# EAGLE library part LC4128ZE_XXTN144 (library lattice_ispmach4000ze)
ispMACH 4128ZE TQFP144 Lattice Semiconductor Corporation - ispMACH 4000ZE Ultra Low Power, Low Cost CPLD Family Generated using Lattice BSDL models: http://www.latticesemi.com/dynamic/index.cfm?fuseaction=view_documents&document_type=36&sloc=01-01-02-01&source=sidebar
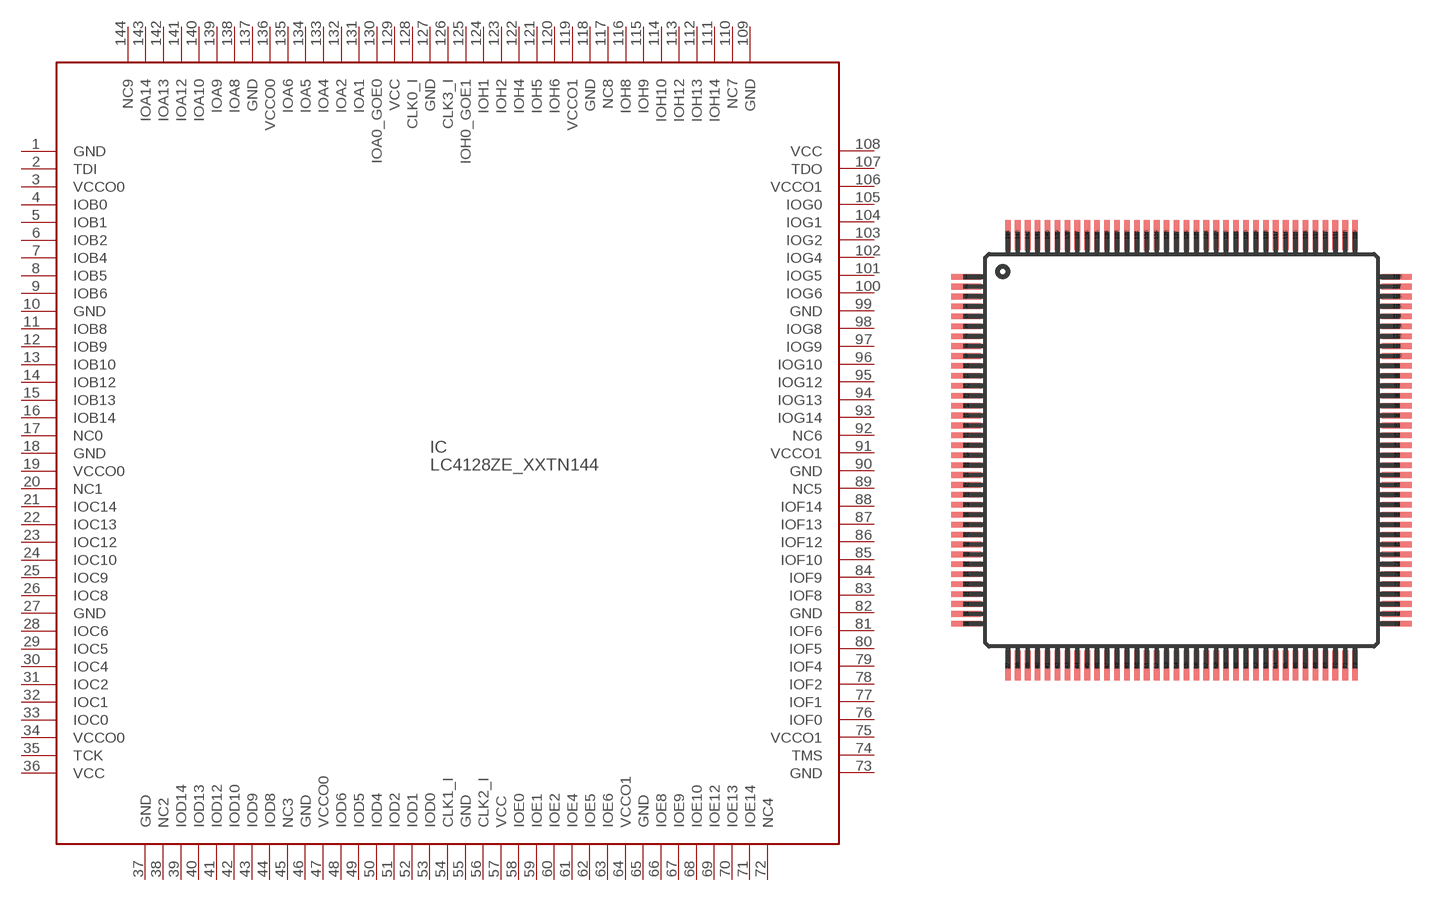
[diagram p4: symbol with the pads of TQFP144; footprint TQFP144]

Designator prefix IC

## LC4128ZE_XXTN144  [TQFP144]
1  GND  pwr
2  TDI  in
3  VCCO0  pwr
4  IOB0
5  IOB1
6  IOB2
7  IOB4
8  IOB5
9  IOB6
10  GND  pwr
11  IOB8
12  IOB9
13  IOB10
14  IOB12
15  IOB13
16  IOB14
17  NC0  pas
18  GND  pwr
19  VCCO0  pwr
20  NC1  pas
21  IOC14
22  IOC13
23  IOC12
24  IOC10
25  IOC9
26  IOC8
27  GND  pwr
28  IOC6
29  IOC5
30  IOC4
31  IOC2
32  IOC1
33  IOC0
34  VCCO0  pwr
35  TCK  in
36  VCC  pwr
37  GND  pwr
38  NC2  pas
39  IOD14
40  IOD13
41  IOD12
42  IOD10
43  IOD9
44  IOD8
45  NC3  pas
46  GND  pwr
47  VCCO0  pwr
48  IOD6
49  IOD5
50  IOD4
51  IOD2
52  IOD1
53  IOD0
54  CLK1_I  in
55  GND  pwr
56  CLK2_I  in
57  VCC  pwr
58  IOE0
59  IOE1
60  IOE2
61  IOE4
62  IOE5
63  IOE6
64  VCCO1  pwr
65  GND  pwr
66  IOE8
67  IOE9
68  IOE10
69  IOE12
70  IOE13
71  IOE14
72  NC4  pas
73  GND  pwr
74  TMS  in
75  VCCO1  pwr
76  IOF0
77  IOF1
78  IOF2
79  IOF4
80  IOF5
81  IOF6
82  GND  pwr
83  IOF8
84  IOF9
85  IOF10
86  IOF12
87  IOF13
88  IOF14
89  NC5  pas
90  GND  pwr
91  VCCO1  pwr
92  NC6  pas
93  IOG14
94  IOG13
95  IOG12
96  IOG10
97  IOG9
98  IOG8
99  GND  pwr
100  IOG6
101  IOG5
102  IOG4
103  IOG2
104  IOG1
105  IOG0
106  VCCO1  pwr
107  TDO  out
108  VCC  pwr
109  GND  pwr
110  NC7  pas
111  IOH14
112  IOH13
113  IOH12
114  IOH10
115  IOH9
116  IOH8
117  NC8  pas
118  GND  pwr
119  VCCO1  pwr
120  IOH6
121  IOH5
122  IOH4
123  IOH2
124  IOH1
125  IOH0_GOE1
126  CLK3_I  in
127  GND  pwr
128  CLK0_I  in
129  VCC  pwr
130  IOA0_GOE0
131  IOA1
132  IOA2
133  IOA4
134  IOA5
135  IOA6
136  VCCO0  pwr
137  GND  pwr
138  IOA8
139  IOA9
140  IOA10
141  IOA12
142  IOA13
143  IOA14
144  NC9  pas

## Footprint TQFP144 (pad centres in mm)
TQFP - 144 http://www.latticesemi.com/lit/docs/package/pkg.pdf
smd 1.5 x 0.285: 1 -10.85,8.75; 2 -10.85,8.25; 3 -10.85,7.75; 4 -10.85,7.25; 5 -10.85,6.75; 6 -10.85,6.25; 7 -10.85,5.75; 8 -10.85,5.25; 9 -10.85,4.75; 10 -10.85,4.25; 11 -10.85,3.75; 12 -10.85,3.25; 13 -10.85,2.75; 14 -10.85,2.25; 15 -10.85,1.75; 16 -10.85,1.25; 17 -10.85,0.75; 18 -10.85,0.25; 19 -10.85,-0.25; 20 -10.85,-0.75; 21 -10.85,-1.25; 22 -10.85,-1.75; 23 -10.85,-2.25; 24 -10.85,-2.75; 25 -10.85,-3.25; 26 -10.85,-3.75; 27 -10.85,-4.25; 28 -10.85,-4.75; 29 -10.85,-5.25; 30 -10.85,-5.75; 31 -10.85,-6.25; 32 -10.85,-6.75; 33 -10.85,-7.25; 34 -10.85,-7.75; 35 -10.85,-8.25; 36 -10.85,-8.75; 73 10.85,-8.75; 74 10.85,-8.25; 75 10.85,-7.75; 76 10.85,-7.25; 77 10.85,-6.75; 78 10.85,-6.25; 79 10.85,-5.75; 80 10.85,-5.25; 81 10.85,-4.75; 82 10.85,-4.25; 83 10.85,-3.75; 84 10.85,-3.25; 85 10.85,-2.75; 86 10.85,-2.25; 87 10.85,-1.75; 88 10.85,-1.25; 89 10.85,-0.75; 90 10.85,-0.25; 91 10.85,0.25; 92 10.85,0.75; 93 10.85,1.25; 94 10.85,1.75; 95 10.85,2.25; 96 10.85,2.75; 97 10.85,3.25; 98 10.85,3.75; 99 10.85,4.25; 100 10.85,4.75; 101 10.85,5.25; 102 10.85,5.75; 103 10.85,6.25; 104 10.85,6.75; 105 10.85,7.25; 106 10.85,7.75; 107 10.85,8.25; 108 10.85,8.75
smd 0.285 x 1.5: 37 -8.75,-10.85; 38 -8.25,-10.85; 39 -7.75,-10.85; 40 -7.25,-10.85; 41 -6.75,-10.85; 42 -6.25,-10.85; 43 -5.75,-10.85; 44 -5.25,-10.85; 45 -4.75,-10.85; 46 -4.25,-10.85; 47 -3.75,-10.85; 48 -3.25,-10.85; 49 -2.75,-10.85; 50 -2.25,-10.85; 51 -1.75,-10.85; 52 -1.25,-10.85; 53 -0.75,-10.85; 54 -0.25,-10.85; 55 0.25,-10.85; 56 0.75,-10.85; 57 1.25,-10.85; 58 1.75,-10.85; 59 2.25,-10.85; 60 2.75,-10.85; 61 3.25,-10.85; 62 3.75,-10.85; 63 4.25,-10.85; 64 4.75,-10.85; 65 5.25,-10.85; 66 5.75,-10.85; 67 6.25,-10.85; 68 6.75,-10.85; 69 7.25,-10.85; 70 7.75,-10.85; 71 8.25,-10.85; 72 8.75,-10.85; 109 8.75,10.85; 110 8.25,10.85; 111 7.75,10.85; 112 7.25,10.85; 113 6.75,10.85; 114 6.25,10.85; 115 5.75,10.85; 116 5.25,10.85; 117 4.75,10.85; 118 4.25,10.85; 119 3.75,10.85; 120 3.25,10.85; 121 2.75,10.85; 122 2.25,10.85; 123 1.75,10.85; 124 1.25,10.85; 125 0.75,10.85; 126 0.25,10.85; 127 -0.25,10.85; 128 -0.75,10.85; 129 -1.25,10.85; 130 -1.75,10.85; 131 -2.25,10.85; 132 -2.75,10.85; 133 -3.25,10.85; 134 -3.75,10.85; 135 -4.25,10.85; 136 -4.75,10.85; 137 -5.25,10.85; 138 -5.75,10.85; 139 -6.25,10.85; 140 -6.75,10.85; 141 -7.25,10.85; 142 -7.75,10.85; 143 -8.25,10.85; 144 -8.75,10.85